# EAGLE library part 3314-5002 (library 3M_By_element14_Batch_1)
Four-Wall Header
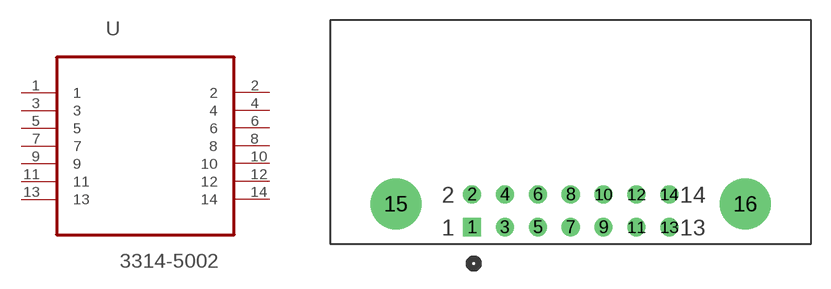
[diagram p32: symbol with the pads of 3M_3314-5002; footprint 3M_3314-5002]

Designator prefix U

## 3314-5002 (MPN: 3314-5002; OC_FARNELL: 1368692; OC_NEWARK: 46F4676; PACKAGE: Four-Wall Header , 14 Way; SUPPLIER: 3M)  [3M_3314-5002]
1  1  pas
2  2  pas
3  3  pas
4  4  pas
5  5  pas
6  6  pas
7  7  pas
8  8  pas
9  9  pas
10  10  pas
11  11  pas
12  12  pas
13  13  pas
14  14  pas

## Footprint 3M_3314-5002 (pad centres in mm)
drill 0.889 square: 1 -15.24,-2.54
drill 0.889: 2 -15.24,0; 3 -12.7,-2.54; 4 -12.7,0; 5 -10.16,-2.54; 6 -10.16,0; 7 -7.62,-2.54; 8 -7.62,0; 9 -5.08,-2.54; 10 -5.08,0; 11 -2.54,-2.54; 12 -2.54,0; 13 0,-2.54; 14 0,0
drill 2.946: 15 -21.133,-0.737; 16 5.893,-0.737